# EAGLE library part DRV8850_RGY_24 (library block_parts)
The DRV8850 from Texas Instruments is a Low-Voltage H-bridge IC With LDO Voltage Regulation.
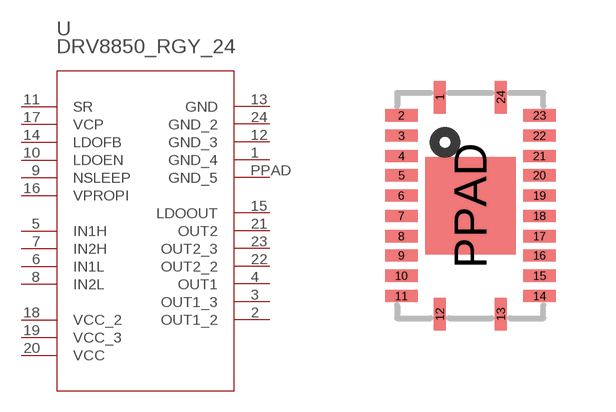
[diagram p0: symbol with the pads of RGY_24; footprint RGY_24]

Designator prefix U

## DRV8850_RGY_24 (MANUFACTURER_PART_NUMBER: drv8850_rgy_24; VENDOR: Texas Instruments)  [RGY_24]
1  GND_4  pwr
2  OUT1_2  out
3  OUT1_3  out
4  OUT1  out
5  IN1H  in
6  IN1L  in
7  IN2H  in
8  IN2L  in
9  NSLEEP  in
10  LDOEN  in
11  SR
12  GND_3  pwr
13  GND  pwr
14  LDOFB  in
15  LDOOUT  out
16  VPROPI  out
17  VCP  pas
18  VCC_2  pwr
19  VCC_3  pwr
20  VCC  pwr
21  OUT2  out
22  OUT2_2  out
23  OUT2_3  out
24  GND_2  pwr
PPAD  GND_5  pwr

## Footprint RGY_24 (pad centres in mm)
smd 0.305 x 0.813: 1 -0.762,2.718; 12 -0.762,-2.718; 13 0.762,-2.718; 24 0.762,2.718
smd 0.813 x 0.305: 2 -1.727,2.261; 3 -1.727,1.753; 4 -1.727,1.245; 5 -1.727,0.762; 6 -1.727,0.254; 7 -1.727,-0.254; 8 -1.727,-0.762; 9 -1.727,-1.245; 10 -1.727,-1.753; 11 -1.727,-2.261; 14 1.727,-2.261; 15 1.727,-1.753; 16 1.727,-1.245; 17 1.727,-0.762; 18 1.727,-0.254; 19 1.727,0.254; 20 1.727,0.762; 21 1.727,1.245; 22 1.727,1.753; 23 1.727,2.261
smd 2.26 x 2.44: PPAD 0,0